# EAGLE library part PIC12F1572 (library mathrax)
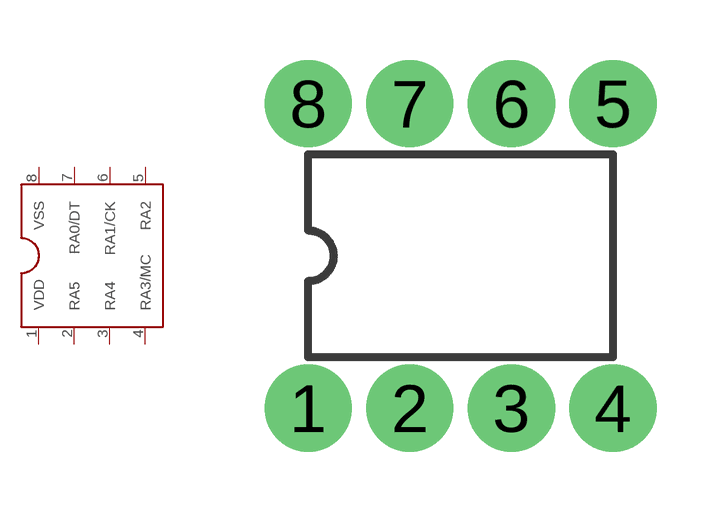
[diagram p2: symbol with the pads of 8PIN_DIP; footprint 8PIN_DIP]

Designator prefix -

## PIC12F1572  [8PIN_DIP]
1  VDD
2  RA5
3  RA4
4  RA3/MC
5  RA2
6  RA1/CK
7  RA0/DT
8  VSS

## Footprint 8PIN_DIP (pad centres in mm)
drill 0.8 pad 2.184: 1 -3.81,-3.81; 2 -1.27,-3.81; 3 1.27,-3.81; 4 3.81,-3.81; 5 3.81,3.81; 6 1.27,3.81; 7 -1.27,3.81; 8 -3.81,3.81